# EAGLE library part CARD_EDGE_44_MALE (library 838_Components)
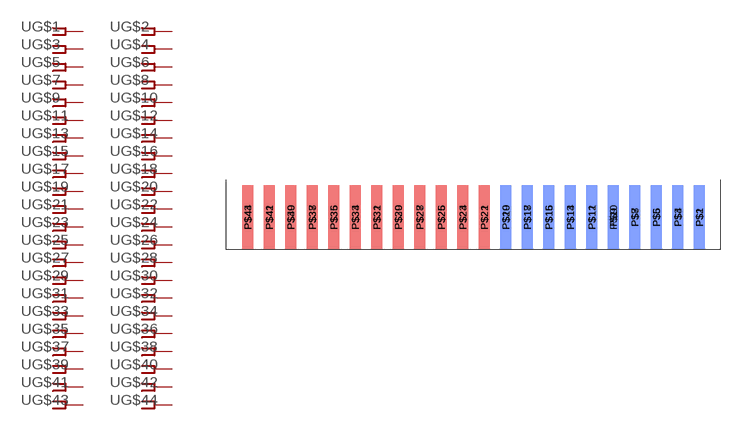
[diagram p22: symbol with the pads of CARD_EDGE_44_MALE; footprint CARD_EDGE_44_MALE]

Designator prefix -; gates G$1=FPINV G$2=FPINV G$3=FPINV G$4=FPINV G$5=FPINV G$6=FPINV G$7=FPINV G$8=FPINV G$9=FPINV G$10=FPINV G$11=FPINV G$12=FPINV G$13=FPINV G$14=FPINV G$15=FPINV G$16=FPINV G$17=FPINV G$18=FPINV G$19=FPINV G$20=FPINV G$21=FPINV G$22=FPINV G$23=FPINV G$24=FPINV G$25=FPINV G$26=FPINV G$27=FPINV G$28=FPINV G$29=FPINV G$30=FPINV G$31=FPINV G$32=FPINV G$33=FPINV G$34=FPINV G$35=FPINV G$36=FPINV G$37=FPINV G$38=FPINV G$39=FPINV G$40=FPINV G$41=FPINV G$42=FPINV G$43=FPINV G$44=FPINV

## CARD_EDGE_44_MALE  [CARD_EDGE_44_MALE]
P$1  G$1:1  pas
P$2  G$2:1  pas
P$3  G$3:1  pas
P$4  G$4:1  pas
P$5  G$5:1  pas
P$6  G$6:1  pas
P$7  G$7:1  pas
P$8  G$8:1  pas
P$9  G$9:1  pas
P$10  G$10:1  pas
P$11  G$11:1  pas
P$12  G$12:1  pas
P$13  G$13:1  pas
P$14  G$14:1  pas
P$15  G$15:1  pas
P$16  G$16:1  pas
P$17  G$17:1  pas
P$18  G$18:1  pas
P$19  G$19:1  pas
P$20  G$20:1  pas
P$21  G$21:1  pas
P$22  G$22:1  pas
P$23  G$23:1  pas
P$24  G$24:1  pas
P$25  G$25:1  pas
P$26  G$26:1  pas
P$27  G$27:1  pas
P$28  G$28:1  pas
P$29  G$29:1  pas
P$30  G$30:1  pas
P$31  G$31:1  pas
P$32  G$32:1  pas
P$33  G$33:1  pas
P$34  G$34:1  pas
P$35  G$35:1  pas
P$36  G$36:1  pas
P$37  G$37:1  pas
P$38  G$38:1  pas
P$39  G$39:1  pas
P$40  G$40:1  pas
P$41  G$41:1  pas
P$42  G$42:1  pas
P$43  G$43:1  pas
P$44  G$44:1  pas

## Footprint CARD_EDGE_44_MALE (pad centres in mm)
smd 1.27 x 7.62 bottom: P$1 22.86,3.81; P$3 20.32,3.81; P$5 17.78,3.81; P$7 15.24,3.81; P$9 12.7,3.81; P$11 10.16,3.81; P$13 7.62,3.81; P$15 5.08,3.81; P$17 2.54,3.81; P$19 0,3.81; P$21 -2.54,3.81; P$23 -5.08,3.81; P$25 -7.62,3.81; P$27 -10.16,3.81; P$29 -12.7,3.81; P$31 -15.24,3.81; P$33 -17.78,3.81; P$35 -20.32,3.81; P$37 -22.86,3.81; P$39 -25.4,3.81; P$41 -27.94,3.81; P$43 -30.48,3.81
smd 1.27 x 7.62: P$2 22.86,3.81; P$4 20.32,3.81; P$6 17.78,3.81; P$8 15.24,3.81; P$10 12.7,3.81; P$12 10.16,3.81; P$14 7.62,3.81; P$16 5.08,3.81; P$18 2.54,3.81; P$20 0,3.81; P$22 -2.54,3.81; P$24 -5.08,3.81; P$26 -7.62,3.81; P$28 -10.16,3.81; P$30 -12.7,3.81; P$32 -15.24,3.81; P$34 -17.78,3.81; P$36 -20.32,3.81; P$38 -22.86,3.81; P$40 -25.4,3.81; P$42 -27.94,3.81; P$44 -30.48,3.81